# EAGLE library part LCDHEADER (library sibosop)
14 pin lcd header
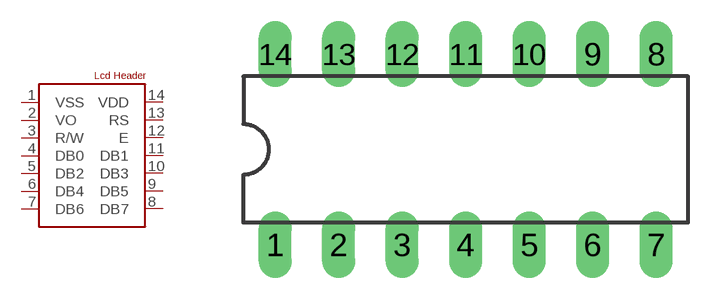
[diagram p8: symbol with the pads of DIL14; footprint DIL14]

Designator prefix H

## LCDHEADER  [DIL14]
1  VSS
2  VO
3  R/W
4  DB0
5  DB2
6  DB4
7  DB6
8  DB7
9  DB5
10  DB3
11  DB1
12  E
13  RS
14  VDD

## Footprint DIL14 (pad centres in mm)
Dual In Line Package
drill 0.813 long: 1 -7.62,-3.81; 2 -5.08,-3.81; 3 -2.54,-3.81; 4 0,-3.81; 5 2.54,-3.81; 6 5.08,-3.81; 7 7.62,-3.81; 8 7.62,3.81; 9 5.08,3.81; 10 2.54,3.81; 11 0,3.81; 12 -2.54,3.81; 13 -5.08,3.81; 14 -7.62,3.81